# Altium footprint library Tigershark3D.PcbLib: 54 footprints (part 1 of 4)
Each footprint in its own frame and in the unit in brackets; x right, y up, seen from the top. Pads: shape width x height; smd on the part's side, far side on the other; paste and mask are expansions set on the pad; w line width, h text height; cw(c..) or ccw(c..) is an arc to the next point about the centre after c.
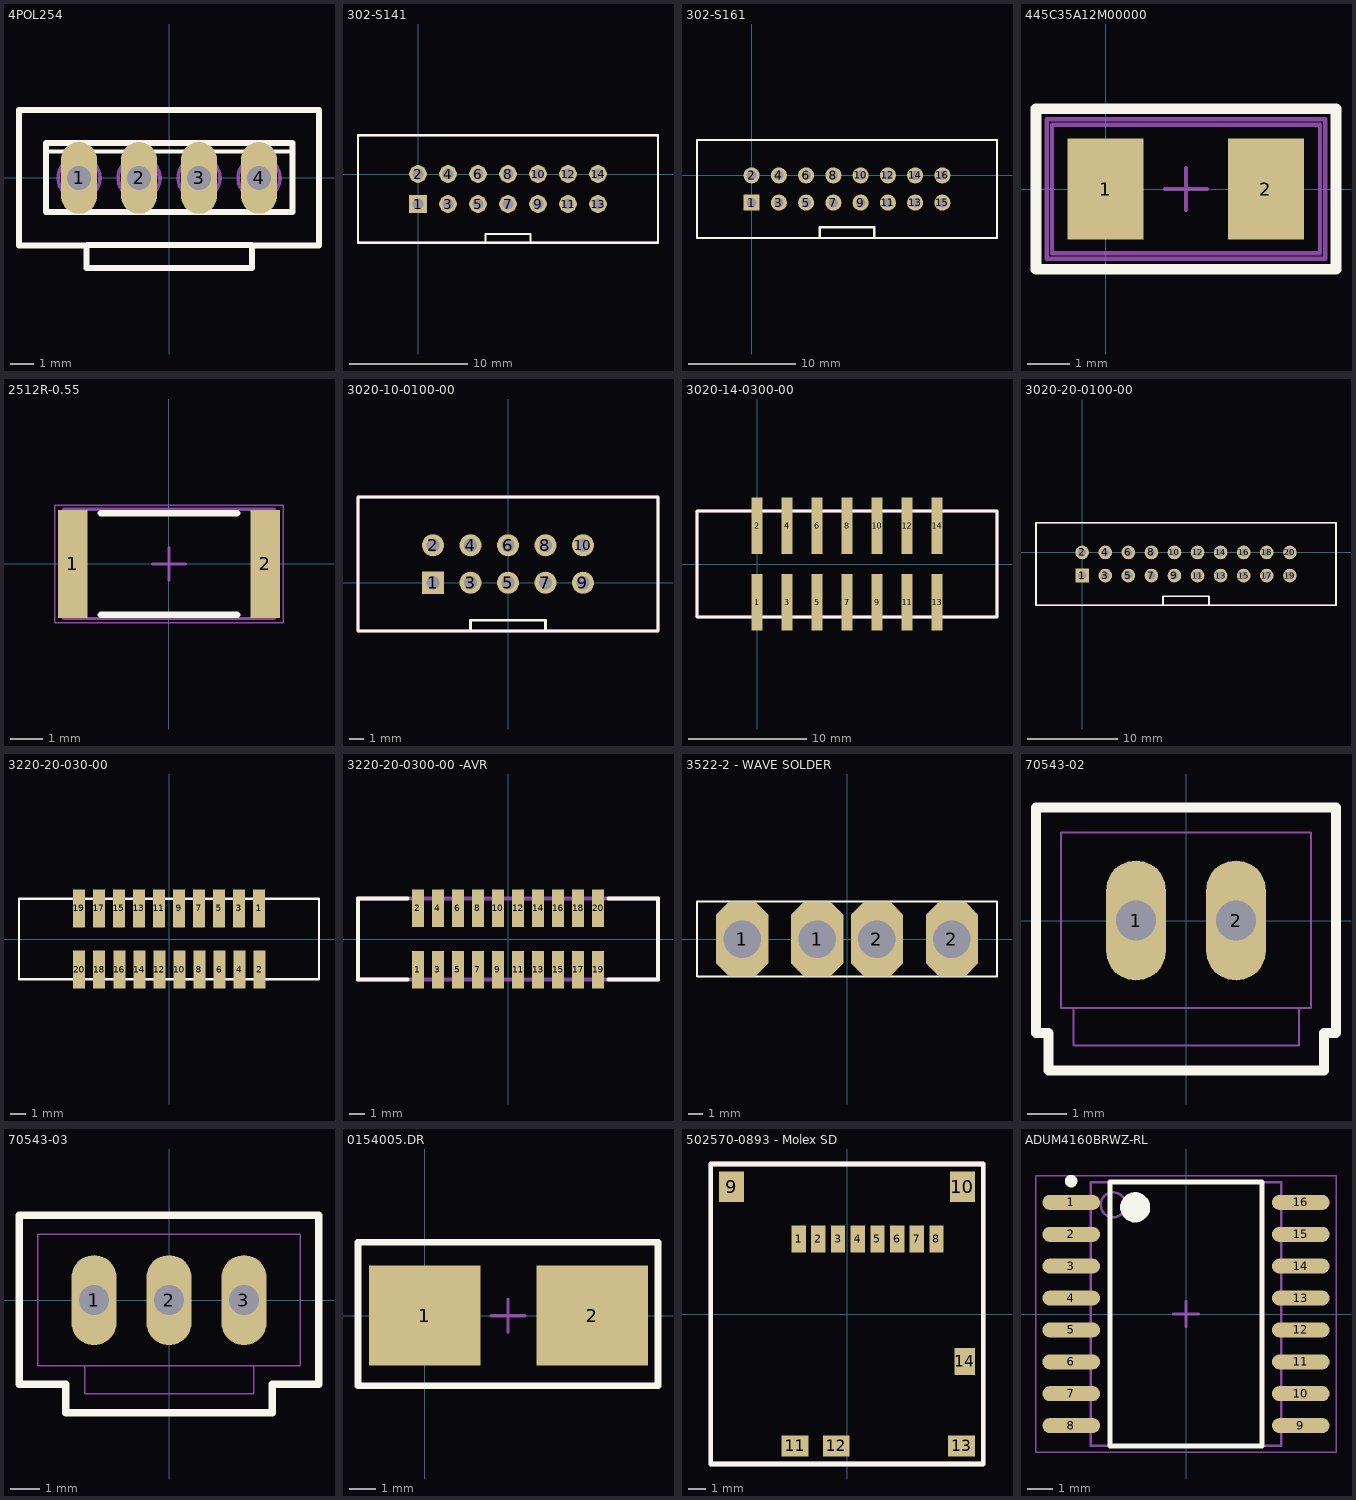
[diagram p0: the footprints below, top view; thin cyan lines are the x and y axes]

## 4POL254 [mil]
pads (4):
  oval 60x120 hole 40: 1(-150,0) 2(-50,0) 3(50,0) 4(150,0)
Top Overlay:
  lines w6: -200.79,44 201,44
  lines w10: -136.77,-112.22 138.73,-112.22 ; -250,-112.5 -137.5,-112.5 -137.5,-150 138,-150 138,-112.5 250,-112.5 250,113 -250,113 -250,-112.5 ; -205.12,-57.09 -205.12,58 206,58 206,-57.09 -205.12,-57.09
Mechanical 16:
  circle w6: c150,0 r35
  circle w6: c50,0 r35
  circle w6: c-50,0 r35
  circle w6: c-150,0 r35
  lines w6: -175,-20 -130,25 ; -80,-10 -20,5 ; 30,25 70,-25 ; 120,15 180,-15
3D body: height 454.33, standoff 118.11, extent -249.98,-149.98 249.98,112.98
3D body: height 118.11, standoff 0, extent -249.98,-112.48 249.98,112.98

## 302-S141 [mm] "2.54mm pitch 2X7 1 Pin Shrouded Connector"
pads (14):
  rect 1.5x1.5 hole 0.9: 1(0,-2.54)
  round 1.5 hole 0.9: 2(0,0) 3(2.54,-2.54) 4(2.54,0) 5(5.08,-2.54) 6(5.08,0) 7(7.62,-2.54) 8(7.62,0) 9(10.16,-2.54) 10(10.16,0) 11(12.7,-2.54) 12(12.7,0) 13(15.24,-2.54) 14(15.24,0)
Top Overlay:
  lines w0.2: 5.715,-5.82 5.715,-5.08 9.525,-5.08 9.525,-5.82 ; -5.08,-5.82 -5.08,3.28 20.32,3.28 20.32,-5.82 -5.08,-5.82
Mechanical 13:
  lines w0.2: -5.08,-5.82 20.32,-5.82 20.32,3.28 -5.08,3.28 -5.08,-5.82
3D body: height 9.1, standoff -1.75, extent -5.08,-5.842 20.32,3.302

## 302-S161 [mm] "2.54mm pitch 2X8 1 Pin Shrouded Connector"
height 9.1
pads (16):
  rect 1.5x1.5 hole 0.9: 1(0,-2.54)
  round 1.5 hole 0.9: 2(0,0) 3(2.54,-2.54) 4(2.54,0) 5(5.08,-2.54) 6(5.08,0) 7(7.62,-2.54) 8(7.62,0) 9(10.16,-2.54) 10(10.16,0) 11(12.7,-2.54) 12(12.7,0) 13(15.24,-2.54) 14(15.24,0) 15(17.78,-2.54) 16(17.78,0)
Top Overlay:
  lines w0.2: 6.35,-5.82 6.35,-4.826 11.43,-4.826 11.43,-5.82 ; -5.08,-5.82 22.86,-5.82 22.86,3.28 -5.08,3.28 -5.08,-5.82
Mechanical 13:
  lines w0.2: -5.08,-5.82 -5.08,3.28 22.86,3.28 22.86,-5.82 -5.08,-5.82
3D body: height 9.1, standoff -1.75, extent -5.08,-5.842 22.86,3.302

## 445C35A12M00000 [mm] "Crystal Oscillator"
height 1.35
pads (2):
  rect 1.8x2.4 smd: 1(0,0) 2(3.8,0)
Top Overlay:
  lines w0.254: -1.651,-1.905 -1.651,1.905 5.461,1.905 5.461,-1.905 -1.651,-1.905
Mechanical 13:
  lines w0.1: -1.27,-1.524 5.08,-1.524 5.08,1.524 -1.27,1.524 -1.27,-1.524
Mechanical 15:
  lines w0.1: 1.405,0 2.405,0 ; 1.905,-0.5 1.905,0.5 ; -1.397,-1.651 -1.397,1.651 5.207,1.651 5.207,-1.651 -1.397,-1.651
3D body: height 1, standoff 0, extent -1.27,-1.524 5.08,1.524

## 2512R-0.55 [mm] "2512 Resistor 6.35mm x 3.2mm x 0.55mm"
height 0.65
pads (2):
  rect 0.9x3.3 smd: 1(-2.95,0) 2(2.95,0)
Top Overlay:
  lines w0.2: -2.1,-1.55 2.1,-1.55 ; -2.1,1.55 2.1,1.55
Mechanical 13:
  lines w0.1: -3.225,-1.675 3.225,-1.675 3.225,1.675 -3.225,1.675 -3.225,-1.675
Mechanical 15:
  lines w0.05: -3.5,-1.8 3.5,-1.8 3.5,1.8 -3.5,1.8 -3.5,-1.8
  lines w0.1: -0.5,0 0.5,0 ; 0,-0.5 0,0.5
3D body: height 0.65, standoff 0, extent 2.725,-1.675 3.225,1.675
3D body: height 0.65, standoff 0, extent -3.225,-1.675 -2.725,1.675
3D body: height 0.65, standoff 0, extent -2.725,-1.675 2.725,1.675

## 3020-10-0100-00 [mm] "2.54mm pitch 2X5 1 Pin Shrouded Connector"
pads (10):
  rect 1.5x1.5 hole 0.9: 1(-5.08,0)
  round 1.5 hole 0.9: 2(-5.08,2.54) 3(-2.54,0) 4(-2.54,2.54) 5(0,0) 6(0,2.54) 7(2.54,0) 8(2.54,2.54) 9(5.08,0) 10(5.08,2.54)
Top Overlay:
  lines w0.2: -2.54,-3.28 -2.54,-2.54 2.54,-2.54 2.54,-3.28 ; -10.16,-3.28 -10.16,5.82 10.16,5.82 10.16,-3.28 -10.16,-3.28
Mechanical 13:
  lines w0.2: -10.16,-3.28 10.16,-3.28 10.16,5.82 -10.16,5.82 -10.16,-3.28
3D body: height 9.1, standoff 0, extent -10.16,-3.302 10.16,5.842

## 3020-14-0300-00 [mm] "CNC Tech 14 Pin 2.54mm shrouded SMT connector"
height 9.8
pads (14):
  rect 0.89x4.8 smd: 1(0,-3.25) 2(0,3.25) 3(2.54,-3.25) 4(2.54,3.25) 5(5.08,-3.25) 6(5.08,3.25) 7(7.62,-3.25) 8(7.62,3.25) 9(10.16,-3.25) 10(10.16,3.25) 11(12.7,-3.25) 12(12.7,3.25) 13(15.24,-3.25) 14(15.24,3.25)
Top Overlay:
  lines w0.254: -5.08,-4.5 20.32,-4.5 20.32,4.5 -5.08,4.5 -5.08,-4.5
Mechanical 1:
  lines w0.254: -5.08,-4.5 -5.08,4.5 20.32,4.5 20.32,-4.5 -5.08,-4.5
3D body: height 9, standoff -1.75, extent -5.08,-4.445 20.32,4.445

## 3020-20-0100-00 [mm] "2.54mm pitch 2X10 1 Pin Shrouded Connector"
height 9.1
pads (20):
  rect 1.5x1.5 hole 0.9: 1(0,-2.54)
  round 1.5 hole 0.9: 2(0,0) 3(2.54,-2.54) 4(2.54,0) 5(5.08,-2.54) 6(5.08,0) 7(7.62,-2.54) 8(7.62,0) 9(10.16,-2.54) 10(10.16,0) 11(12.7,-2.54) 12(12.7,0) 13(15.24,-2.54) 14(15.24,0) 15(17.78,-2.54) 16(17.78,0) 17(20.32,-2.54) 18(20.32,0) 19(22.86,-2.54) 20(22.86,0)
Top Overlay:
  lines w0.2: 8.89,-5.82 8.89,-4.826 13.97,-4.826 13.97,-5.82 ; -5.08,-5.82 -5.08,3.28 27.94,3.28 27.94,-5.82 -5.08,-5.82
Mechanical 13:
  lines w0.2: -5.08,-5.82 27.94,-5.82 27.94,3.28 -5.08,3.28 -5.08,-5.82
3D body: height 9.1, standoff -1.75, extent -5.08,-5.842 27.94,3.302

## 3220-20-030-00 [mm]
pads (20):
  rect 0.76x2.4 smd: 1(5.715,1.95) 2(5.74,-1.93) 3(4.445,1.95) 4(4.47,-1.93) 5(3.175,1.95) 6(3.2,-1.93) 7(1.905,1.95) 8(1.93,-1.93) 9(0.635,1.95) 10(0.66,-1.93) 11(-0.635,1.95) 12(-0.61,-1.93) 13(-1.905,1.95) 14(-1.88,-1.93) 15(-3.175,1.95) 16(-3.15,-1.93) 17(-4.445,1.95) 18(-4.42,-1.93) 19(-5.715,1.95) 20(-5.69,-1.93)
Top Overlay:
  lines w0.152: -9.5,-2.55 -9.5,2.55 9.5,2.55 9.5,-2.55 -9.5,-2.55
3D body: height 5.4, standoff -1.75, extent -9.525,-2.54 9.525,2.54

## 3220-20-0300-00 -AVR [mm] "CNC Tech 1.27mm Spacing 20 Pin Shrouded Connector Part# 3220-20-0300-00"
height 5.4
pads (20):
  rect 0.76x2.4 smd: 1(-5.715,-1.95) 2(-5.715,1.95) 3(-4.445,-1.95) 4(-4.445,1.95) 5(-3.175,-1.95) 6(-3.175,1.95) 7(-1.905,-1.95) 8(-1.905,1.95) 9(-0.635,-1.95) 10(-0.635,1.95) 11(0.635,-1.95) 12(0.635,1.95) 13(1.905,-1.95) 14(1.905,1.95) 15(3.175,-1.95) 16(3.175,1.95) 17(4.445,-1.95) 18(4.445,1.95) 19(5.715,-1.95) 20(5.715,1.95)
Top Overlay:
  lines w0.254: -6.36,-2.55 -9.5,-2.55 -9.5,2.55 -6.36,2.55 ; 6.36,-2.55 9.5,-2.55 9.5,2.55 6.36,2.55
Mechanical 13:
  lines w0.254: -9.5,-2.55 -9.5,2.55 0,2.55 9.5,2.55 9.5,-2.55 0,-2.55 -9.5,-2.55
3D body: height 1.75, standoff -1.75, extent -9.525,-2.54 9.525,2.54

## 3522-2 - WAVE SOLDER [mil]
pads (4):
  oct 140x200 hole 100: 1(-280,0) 1(-80,0) 2(80,0) 2(280,0)
Top Overlay:
  lines w5: -400,-100 -400,100 400,100 400,-100 -400,-100
3D body: height 708.66, standoff 50, extent -353,-73 353,73
3D body: height 299.21, standoff 0, extent -354,-74 354,74
3D body: height 50, standoff 0, extent -402.5,-102.5 402.5,102.5

## 70543-02 [mil]
pads (2):
  oval 60x120 hole 40: 1(-50,0) 2(50,0)
Top Overlay:
  lines w10: -150,-112.5 -150,113 150,113 150,-112.5 138,-112.5 138,-150 -137.5,-150 -137.5,-112.5 -150,-112.5
Mechanical 16:
  rectangle: 41.01,-9.37 60.01,10
  rectangle: -59.36,-9.37 -40.61,10
  lines w2: -112.5,-87.5 -125,-87.5 -125,88 125,88 125,-87.5 113,-87.5 ; -112.5,-87.5 113,-87.5 ; -112.5,-87.5 -112.5,-125 113,-125 113,-87.5
  text "1" at -112.5,-62.5 h62
3D body: height 118.11, standoff 0, extent -149.98,-112.48 149.98,112.98
3D body: height 450, standoff 118.11, extent -149.98,-149.98 149.98,112.98

## 70543-03 [mil]
pads (3):
  oval 60x120 hole 40: 1(-100,0) 2(0,0) 3(100,0)
Top Overlay:
  lines w10: -200,-112.5 -137.5,-112.5 -137.5,-150 138,-150 138,-112.5 200,-112.5 200,113 -200,113 -200,-112.5
Mechanical 16:
  rectangle: 91.2,-9.37 110.2,10
  rectangle: -109.18,-9.37 -90.43,10
  rectangle: -9.18,-9.37 10.2,10
  lines w2: -112.5,-87.5 -112.5,-125 113,-125 113,-87.5 ; -112.5,-87.5 113,-87.5 ; -112.5,-87.5 -175,-87.5 -175,88 175,88 175,-87.5 113,-87.5
  text "1" at -162.5,-62.5 h62
3D body: height 450, standoff 0, extent -199.98,-149.98 199.98,112.98

## 0154005.DR [mm] "LittleFuse 0154005.DR"
pads (2):
  rect 4.24x3.81 smd: 1(0,0) 2(6.38,0)
Top Overlay:
  lines w0.254: -2.54,-2.667 8.89,-2.667 8.89,2.794 -2.54,2.794 -2.54,-2.667
Mechanical 15:
  lines w0.127: 2.54,0 3.175,0 ; 3.175,-0.635 3.175,0 ; 3.175,0.635 3.175,0 ; 3.81,0 3.175,0
3D body: height 3.81, standoff 0, extent -1.714,-2.413 8.064,2.54

## 502570-0893 - Molex SD [mm] "Molex SD Card Footprint 502570-0893"
pads (14):
  rect 0.8x1.5 smd: 1(-2.7,4.2) 2(-1.6,4.2) 3(-0.5,4.2) 4(0.6,4.2) 5(1.7,4.2) 6(2.8,4.2) 7(3.9,4.2) 8(5,4.2)
  rect 1.4x1.7 smd: 9(-6.45,7.1) 10(6.45,7.1)
  rect 1.5x1.15 smd: 11(-2.9,-7.375) 12(-0.6,-7.375) 13(6.4,-7.375)
  rect 1.15x1.5 smd paste+0: 14(6.575,-2.65)
Top Overlay:
  lines w0.254: -7.62,-8.382 -7.62,8.382 7.62,8.382 7.62,-8.382 -7.62,-8.382
Mechanical 13:
  lines w0.254: -7.62,-8.382 7.62,-8.382 7.62,8.382 -7.62,8.382 -7.62,-8.382
3D body: height 1.85, standoff 0.05, extent -6.858,-7.753 6.942,7.747

## ADUM4160BRWZ-RL [mm] "SOIC ADI iCouopler Package BRWZ-RL"
pads (16):
  oval 2.3x0.6 smd: 1(-4.575,4.445) 2(-4.575,3.175) 3(-4.575,1.905) 4(-4.575,0.635) 5(-4.575,-0.635) 6(-4.575,-1.905) 7(-4.575,-3.175) 8(-4.575,-4.445) 9(4.575,-4.445) 10(4.575,-3.175) 11(4.575,-1.905) 12(4.575,-0.635) 13(4.575,0.635) 14(4.575,1.905) 15(4.575,3.175) 16(4.575,4.445)
Top Overlay:
  circle w0.25: c-4.575,5.295 r0.125
  circle w0.6: c-2.025,4.25 r0.3
  lines w0.2: -3.025,-5.25 -3.025,5.25 3.025,5.25 3.025,-5.25 -3.025,-5.25
Mechanical 13:
  circle w0.1: c-2.9,4.35 r0.5
  lines w0.1: -3.8,-5.25 -3.8,5.25 3.8,5.25 3.8,-5.25 -3.8,-5.25
Mechanical 15:
  lines w0.05: -5.975,-5.5 -5.975,5.5 5.975,5.5 5.975,-5.5 -5.975,-5.5
  lines w0.1: -0.5,0 0.5,0 ; 0,-0.5 0,0.5
3D body: height 2.65, standoff 0.1, extent -3.8,-5.25 3.8,5.25